# EAGLE library part MCP1827-5002E/ET (library MCP1827)
IC, LDO, 1.5A, 5.0V, DDPAK-5
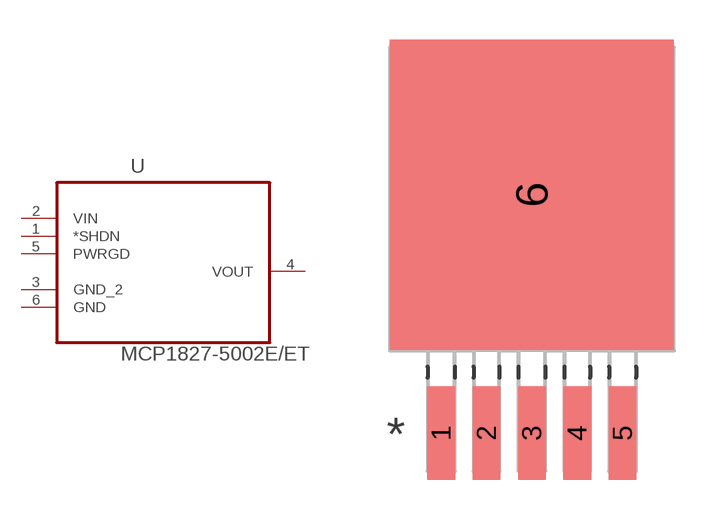
[diagram p0: symbol with the pads of TO170P1490X508-6N; footprint TO170P1490X508-6N]

Designator prefix U

## MCP1827-5002E/ET (MPN: MCP1827-5002E/ET; OC_FARNELL: 1840846; OC_NEWARK: 88K5599; PACKAGE: DDPAK-5; SUPPLIER: Microchip)  [TO170P1490X508-6N]
1  *SHDN  in
2  VIN  in
3  GND_2  pas
4  VOUT  out
5  PWRGD  in
6  GND  pas

## Footprint TO170P1490X508-6N (pad centres in mm)
smd 1.041 x 3.505: 1 -3.404,-8.788; 2 -1.702,-8.788; 3 0,-8.788; 4 1.702,-8.788; 5 3.404,-8.788
smd 10.668 x 11.659: 6 0,0.152